# Altium schematic symbol library Inductors-0402.SchLib: 4 symbols
Pins are listed as number, name and electrical type; pins without a type are passive.

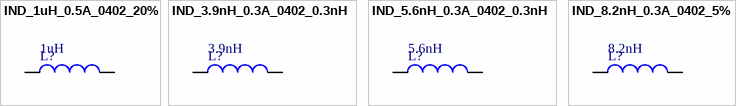
[diagram p0: symbols IND_1uH_0.5A_0402_20% to IND_8.2nH_0.3A_0402_5%]

## IND_1uH_0.5A_0402_20%
designator L?, comment 1uH
1uH 20% 0.5A 0402; PartNumber: MLP1005M1R0DT0S1; Manufacturer: Murata; PackageReference: 0402; PackageDescription: 0402 (2012 metric); Mounting Technology: Surface Mount; Current: 0.5A; Value: 1uH
footprint IND0402 (Chip Inductor, 0402 package)
pins: 1, 2

## IND_3.9nH_0.3A_0402_0.3nH
designator L?, comment 3.9nH
3.9nH +/-0.3nH 0.3A 0402; PartNumber: LQG15HS3N9S02D; Manufacturer: Murata; PackageReference: 0402; PackageDescription: 0402 (2012 metric); Mounting Technology: Surface Mount; Current: 0.3A; Value: 3.9nH
footprint IND0402 (Chip Inductor, 0402 package)
pins: 1, 2

## IND_5.6nH_0.3A_0402_0.3nH
designator L?, comment 5.6nH
5.6nH +/-0.3nH 0.3A 0402; PartNumber: LQG15HS5N6S02D; Manufacturer: Murata; PackageReference: 0402; PackageDescription: 0402 (2012 metric); Mounting Technology: Surface Mount; Current: 0.3A; Value: 5.6nH
footprint IND0402 (Chip Inductor, 0402 package)
pins: 1, 2

## IND_8.2nH_0.3A_0402_5%
designator L?, comment 8.2nH
8.2nH 5% 0.3A 0402; PartNumber: LQG15HS8N2J02D; Manufacturer: Murata; PackageReference: 0402; PackageDescription: 0402 (2012 metric); Mounting Technology: Surface Mount; Current: 0.3A; Value: 8.2nH
footprint IND0402 (Chip Inductor, 0402 package)
pins: 1, 2